# EAGLE library part MICRO_SD (library elements_cs2016)
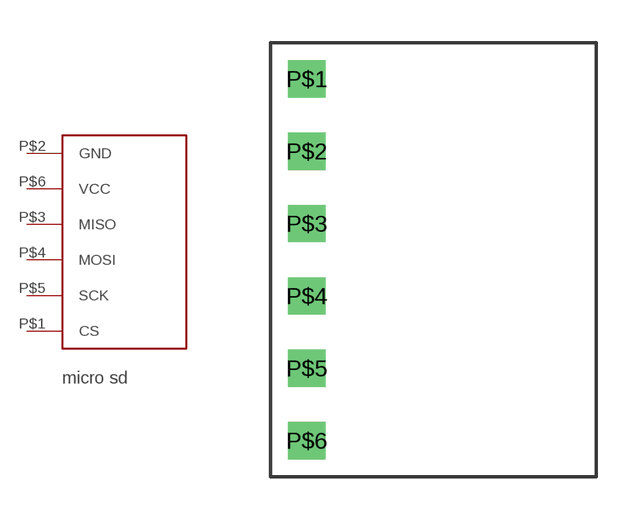
[diagram p3: symbol with the pads of MICRO_SD; footprint MICRO_SD]

Designator prefix -

## MICRO_SD  [MICRO_SD]
P$1  CS
P$2  GND
P$3  MISO
P$4  MOSI
P$5  SCK
P$6  VCC

## Footprint MICRO_SD (pad centres in mm)
drill 0.8 square: P$1 1.27,3.81; P$2 1.27,1.27; P$3 1.27,-1.27; P$4 1.27,-3.81; P$5 1.27,-6.35; P$6 1.27,-8.89